# Altium footprint library WSHM2818.PcbLib: 1 footprints
Each footprint in its own frame and in the unit in brackets; x right, y up, seen from the top. Pads: shape width x height; smd on the part's side, far side on the other; paste and mask are expansions set on the pad; w line width, h text height; cw(c..) or ccw(c..) is an arc to the next point about the centre after c.
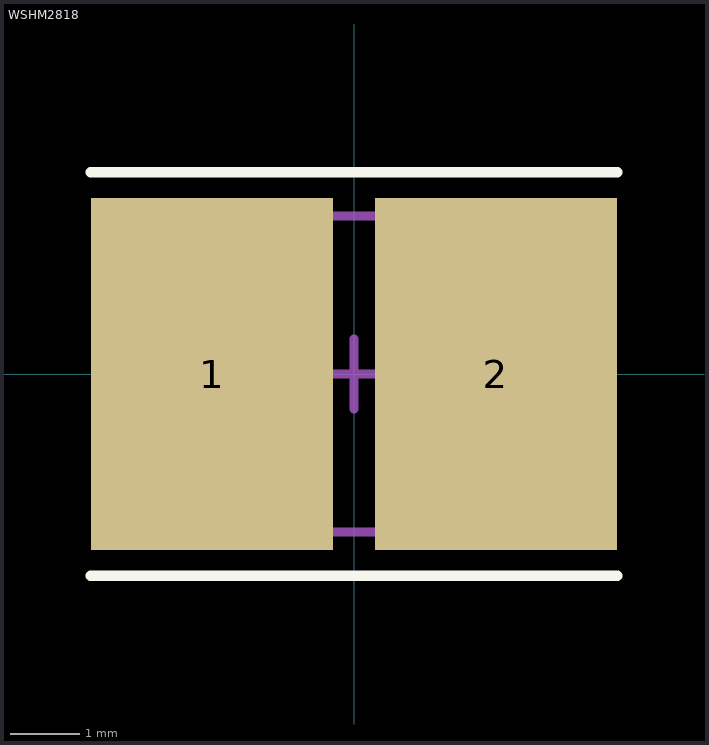
[diagram p0: the footprint, top view; thin cyan lines are the x and y axes]

## WSHM2818 [mm]
pads (2):
  rect 3.5x5.1 smd mask+0.051: 1(-2.055,0) 2(2.055,0)
Top Overlay:
  lines w0.152: -3.81,-2.921 3.81,-2.921 ; -3.81,2.921 3.81,2.921
Top Designator:
  text ".Designator" at -7.618,-0.508 h1.52
Mechanical 13:
  lines w0.127: -3.556,-2.286 3.556,-2.286 3.556,2.286 -3.556,2.286 -3.556,-2.286
Mechanical 15:
  lines w0.127: -0.508,0 0,0 ; 0,-0.508 0,0 ; 0,0.508 0,0 ; 0.508,0 0,0
3D body "WSHM2818.stp": height 1.5, standoff 0, extent -3.548,-2.314 3.548,2.286